# Altium footprint library XTAL.PcbLib: 19 footprints (part 1 of 2)
Each footprint in its own frame and in the unit in brackets; x right, y up, seen from the top. Pads: shape width x height; smd on the part's side, far side on the other; paste and mask are expansions set on the pad; w line width, h text height; cw(c..) or ccw(c..) is an arc to the next point about the centre after c.
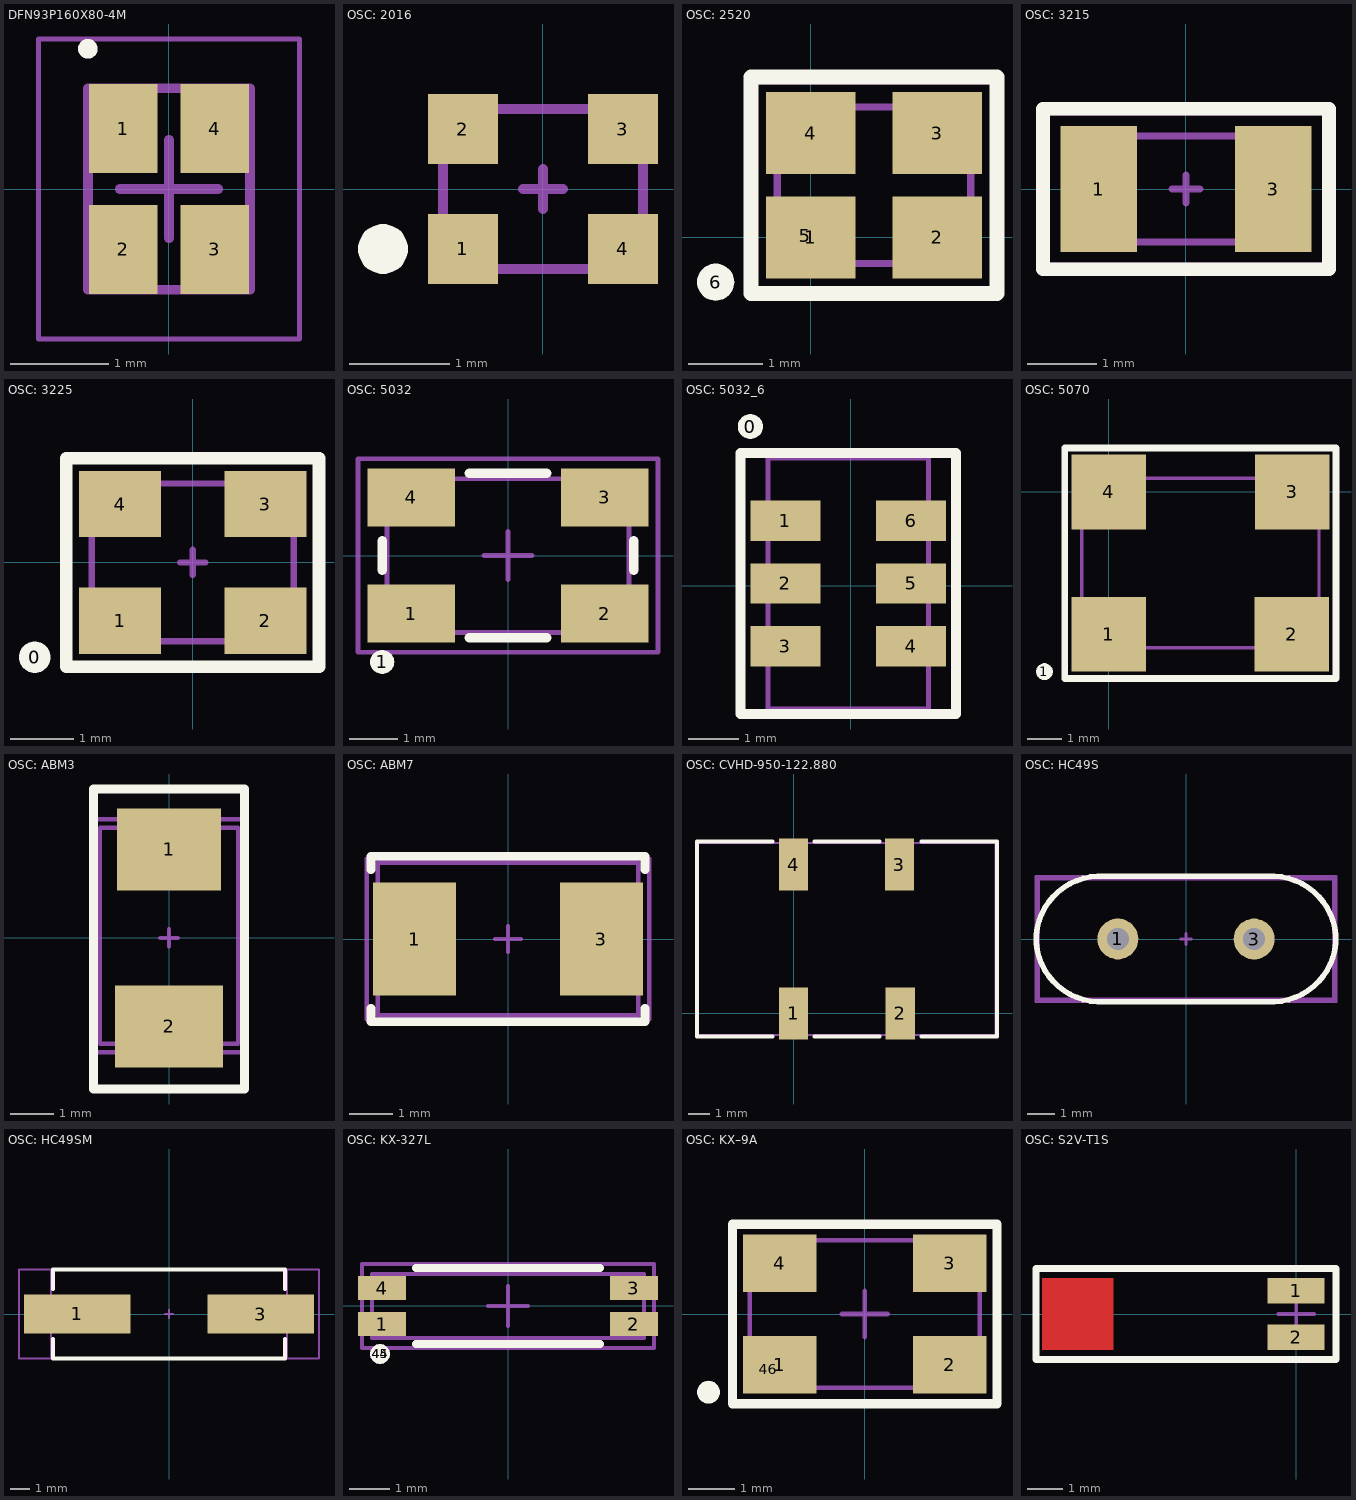
[diagram p0: the footprints below, top view; thin cyan lines are the x and y axes]

## DFN93P160X80-4M [mm] "DFN, 4-Leads, Body 2,00x1,60mm, Pitch 0,93mm, IPC Low Density"
height 0.8
pads (4):
  rect 0.7x0.9 smd: 1(-0.465,0.615) 2(-0.465,-0.615) 3(0.465,-0.615) 4(0.465,0.615)
Top Overlay:
  circle w0.1: c-0.825,1.425 r0.05
Border:
  lines w0.05: -1.325,-1.525 -1.325,1.525 1.325,1.525 1.325,-1.525 -1.325,-1.525
  lines w0.1: -0.5,0 0.5,0 ; 0,-0.5 0,0.5
3D:
  lines w0.1: -0.825,-1.025 0.825,-1.025 0.825,1.025 -0.825,1.025 -0.825,-1.025
3D body: height 0.8, standoff 0, extent -0.825,-1.025 0.825,1.025

## OSC: 2016 [mm]
pads (5):
  rect 0.7x0.7 smd: 1(-0.8,-0.6) 2(-0.8,0.6) 3(0.8,0.6) 4(0.8,-0.6)
  round 0.5 on Top Overlay: ""(-1.6,-0.6)
TopAssy:
  lines w0.1: -1,-0.8 -1,0.8 1,0.8 1,-0.8 -1,-0.8
Border:
  lines w0.1: -0.2,0 0.2,0 ; 0,-0.2 0,0.2 ; -1,-0.8 1,-0.8 1,0.8 -1,0.8 -1,-0.8
3D body "User Library-XRCGB27M000F2P00R0.STEP": height 0.65, standoff 0, extent -1,-0.8 1,0.8

## OSC: 2520 [mm]
pads (6):
  rect 1.2x1.1 smd: 1(0,0) 2(1.7,0) 3(1.7,1.4) 4(0,1.4)
  round 0.5 on Mech1: 5(-0.075,0.025)
  round 0.5 on Top Overlay: 6(-1.275,-0.6)
Top Overlay:
  lines w0.2: -0.8,-0.75 -0.8,2.15 2.5,2.15 2.5,-0.75 -0.8,-0.75
TopAssy:
  lines w0.1: -0.45,-0.35 2.15,-0.35 2.15,1.75 -0.45,1.75 -0.45,-0.35
Border:
  lines w0.1: -0.8,-0.7 -0.8,2.1 2.5,2.1 2.5,-0.7 -0.8,-0.7
3D body "User Library-Crystal NDK NX2520SA series.STEP": height 0.55, standoff 0, extent -0.45,-0.35 2.15,1.75

## OSC: 3215 [mm]
pads (2):
  rect 1.1x1.8 smd: 1(-1.25,0) 3(1.25,0)
Top Overlay:
  lines w0.2: -2.05,-1.15 -2.05,1.15 2.05,1.15 2.05,-1.15 -2.05,-1.15
TopAssy:
  lines w0.1: -1.61,-0.76 1.61,-0.76 1.61,0.76 -1.61,0.76 -1.61,-0.76
Border:
  lines w0.1: -0.2,0 0.2,0 ; 0,-0.2 0,0.2 ; -2.05,-1.1 2.05,-1.1 2.05,1.1 -2.05,1.1 -2.05,-1.1
3D body "User Library-ABS07.STEP": height 0.91, standoff 0, extent -1.61,-0.76 1.61,0.76

## OSC: 3225 [mm]
height 0.55
pads (5):
  round 0.5 on Top Overlay: 0(-2.5,-1.5)
  rect 1.3x1.05 smd: 1(-1.15,-0.925) 2(1.15,-0.925) 3(1.15,0.925) 4(-1.15,0.925)
Top Overlay:
  lines w0.2: -2,-1.65 2,-1.65 2,1.65 -2,1.65 -2,-1.65
TopAssy:
  lines w0.1: -1.6,-1.25 -1.6,1.25 1.6,1.25 1.6,-1.25 -1.6,-1.25
Border:
  lines w0.1: -0.2,0 0.2,0 ; 0,-0.2 0,0.2 ; -2,-1.7 2,-1.7 2,1.6 2,1.7 -2,1.7 -2,-1.7
3D body "User Library-User Library-Siward_SX3225.step": height 0.81, standoff 0, extent -1.6,-1.25 1.6,1.25

## OSC: 5032 [mm]
pads (6):
  round 0.5 on Top Overlay: 1(-2.6,-2.2)
  rect 1.8x1.2 smd: 1(-2,-1.2) 2(2,-1.2) 3(2,1.2) 4(-2,1.2)
  round 0.5 on Mech1: ""(-2,-1.1)
Top Overlay:
  lines w0.2: -2.6,-0.3 -2.6,0.3 ; -0.8,-1.7 0.8,-1.7 ; -0.8,1.7 0.8,1.7 ; 2.6,-0.3 2.6,0.3
TopAssy:
  lines w0.1: -2.5,-1.587 -2.5,1.587 2.5,1.587 2.5,-1.587 -2.5,-1.587
Border:
  lines w0.1: -0.5,0 0.5,0 ; 0,-0.5 0,0.5 ; -3.1,-2 3.1,-2 3.1,2 -3.1,2 -3.1,-2
3D body "ABM3B.STEP": height 1.1, standoff -0.01, extent -2.5,-1.587 2.5,1.587

## OSC: 5032_6 [mm]
pads (7):
  round 0.5 on Top Overlay: 0(-2,3.175)
  rect 1.4x0.8 smd: 1(-1.3,1.3) 2(-1.3,0.05) 3(-1.3,-1.2) 4(1.2,-1.2) 5(1.2,0.05) 6(1.2,1.3)
Top Overlay:
  lines w0.2: -2.2,-2.55 -2.2,2.65 2.1,2.65 2.1,-2.55 -2.2,-2.55
TopAssy:
  lines w0.1: -1.65,-2.45 1.55,-2.45 1.55,2.55 -1.65,2.55 -1.65,-2.45
3D body "User Library-H53-5x3_2.STEP": height 1.22, standoff 0, extent -1.65,-2.45 1.55,2.55

## OSC: 5070 [mm]
pads (5):
  round 0.5 on Top Overlay: 1(-1.9,-5.3)
  rect 2.2x2.2 smd: 1(0,-4.2) 2(5.4,-4.2) 3(5.41,0) 4(0,0)
Top Overlay:
  lines w0.2: -1.3,-5.5 6.7,-5.5 6.7,1.3 -1.3,1.3 -1.3,-5.5
TopAssy:
  lines w0.1: -0.8,-4.6 6.2,-4.6 6.2,0.4 -0.8,0.4 -0.8,-4.6
3D body "User Library-50 MHz.STEP": height 1.51, standoff -0.01, extent -0.8,-4.6 6.2,0.4

## OSC: ABM3 [mm] "Quartz"
height 1.5
pads (2):
  rect 2.4x1.9 smd: 1(0,2.05)
  rect 2.5x1.9 smd: 2(0,-2.05)
Top Overlay:
  lines w0.2: -1.75,-3.5 1.75,-3.5 1.75,-3.2 1.75,3.45 -1.75,3.45 -1.75,-3.5
TopAssy:
  lines w0.1: -1.6,-2.45 1.6,-2.45 1.6,2.55 -1.6,2.55 -1.6,-2.45
Border:
  lines w0.1: -0.2,0 0.2,0 ; 0,-0.2 0,0.2 ; -1.8,-2.65 1.8,-2.65 1.8,2.75 -1.8,2.75 -1.8,-2.65
3D body "User Library-ABM3-1.STEP": height 1.3, standoff 0, extent -1.6,-2.45 1.6,2.55

## OSC: ABM7 [mm]
pads (2):
  rect 1.9x2.6 smd: 1(-2.15,0) 3(2.15,0)
Top Overlay:
  lines w0.2: -3.15,-1.6 -3.15,-1.9 3.15,-1.9 3.15,-1.6 ; -3.15,1.6 -3.15,1.9 3.15,1.9 3.15,1.6
TopAssy:
  lines w0.1: -2.997,-1.752 2.997,-1.752 2.997,1.753 -2.997,1.753 -2.997,-1.752
Border:
  lines w0.1: -0.3,0 0.3,0 ; 0,-0.3 0,0.3 ; -3.25,-1.85 -3.25,1.85 3.25,1.85 3.25,-1.85 -3.25,-1.85
3D body "ABM7.STEP": height 1.4, standoff 0, extent -2.997,-1.752 2.997,1.753

## OSC: CVHD-950-122.880 [mm]
pads (4):
  rect 1.4x2.5 smd: 1(0,0) 2(5.08,0) 3(5.05,7.1) 4(0,7.1)
Top Overlay:
  lines w0.2: -1,-1.1 -4.6,-1.1 -4.6,8.2 -1,8.2 ; 1,-1.1 4.1,-1.1 ; 1,8.2 4.1,8.2 ; 6.1,-1.1 9.7,-1.1 9.7,8.2 6.1,8.2
TopAssy:
  lines w0.1: -4.575,-1.03 9.625,-1.03 9.625,8.13 -4.575,8.13 -4.575,-1.03
3D body "User Library-CVHD-950.STEP": height 5.3, standoff 0, extent -4.575,-1.03 9.625,8.13

## OSC: HC49S [mm]
height 4.2
pads (2):
  round 1.5 hole 0.8: 1(-2.5,0) 3(2.5,0)
Top Overlay:
  lines w0.2: -5.5,-0.156 -5.5,0.156 ; -5.495,-0.156 ccw(c-3.15,0.05) -3.248,-2.302 ; -5.495,0.156 cw(c-3.15,-0.05) -3.248,2.302 ; -3.248,-2.3 3.248,-2.3 ; -3.248,2.3 3.248,2.3 ; 3.248,-2.302 ccw(c3.15,0.05) 5.495,-0.156 ; 3.248,2.302 cw(c3.15,-0.05) 5.495,0.156 ; 5.5,-0.156 5.5,0.156
TopAssy:
  lines w0.1: -5.4,-2.2 -5.4,2.2 5.4,2.2 5.4,-2.2 -5.4,-2.2
Border:
  lines w0.1: -0.2,0 0.2,0 ; 0,-0.2 0,0.2 ; -5.5,-2.3 -5.5,2.3 5.5,2.3 5.5,-2.3 -5.5,-2.3
3D body "User Library-HC-49.STEP": height 3.5, standoff -3, extent -5.4,-2.25 5.4,2.25

## OSC: HC49SM [mm]
height 5
pads (2):
  rect 5.5x2 smd: 1(-4.75,0) 3(4.75,0)
Top Overlay:
  lines w0.2: -6,-1.3 -6,-2.3 6,-2.3 6,-1.3 ; -6,1.3 -6,2.3 6,2.3 6,1.3
TopAssy:
  lines w0.1: -6.1,-2.3 -6.1,2.3 6.1,2.3 6.1,-2.3 -6.1,-2.3
Border:
  lines w0.1: -0.2,0 0.2,0 ; 0,-0.2 0,0.2 ; -7.75,-2.3 -7.75,2.3 7.75,2.3 7.75,-2.3 -7.75,-2.3
3D body "User Library-HC-49S.STEP": height 4.3, standoff -0.05, extent -6.15,-2.35 6.15,2.35

## OSC: KX-327L [mm] "Quartz Crystal KX – 327L"
height 1.4
pads (6):
  rect 1.2x0.6 smd: 1(-3.15,-0.45) 2(3.15,-0.45) 3(3.15,0.45) 4(-3.15,0.45)
  round 0.5 on Top Overlay: 44(-3.2,-1.2)
  round 0.5 on Mech1: 45(-3.2,-1.2)
Top Overlay:
  lines w0.2: -2.3,-0.95 2.3,-0.95 ; -2.3,0.95 2.3,0.95
TopAssy:
  lines w0.1: -3.4,-0.8 3.4,-0.8 3.4,0.8 -3.4,0.8 -3.4,-0.8
Border:
  lines w0.1: -0.5,0 0.5,0 ; 0,-0.5 0,0.5 ; -3.65,-1.05 -3.65,1.05 3.65,1.05 3.65,-1.05 -3.65,-1.05
3D body "User Library-KX-327LT.STEP": height 1.4, standoff 0, extent -3.45,-0.75 3.45,0.75

## OSC: KX–9A [mm] "Quartz Crystal  KX–9A"
height 1
pads (6):
  rect 1.6x1.25 smd: 1(-1.85,-1.1) 2(1.85,-1.1) 3(1.85,1.1) 4(-1.85,1.1)
  round 0.5 on Mech1: 46(-2.1,-1.2)
  round 0.5 on Top Overlay: ""(-3.4,-1.7)
Top Overlay:
  lines w0.2: -2.875,-1.95 -2.875,1.95 2.875,1.95 2.875,-1.95 -2.875,-1.95
TopAssy:
  lines w0.1: -2.5,-1.6 2.5,-1.6 2.5,1.6 -2.5,1.6 -2.5,-1.6
Border:
  lines w0.1: -0.5,0 0.5,0 ; 0,-0.5 0,0.5 ; -2.85,-1.95 -2.85,1.95 2.85,1.95 2.85,-1.95 -2.85,-1.95
3D body "User Library-GeyerElectronics_KX9A.STEP": height 1.01, standoff 0, extent -2.5,-1.6 2.5,1.6

## OSC: S2V-T1S [mm]
height 1.5
pads (2):
  rect 1.6x0.7 smd: 1(0,0.65) 2(0,-0.65)
Top Layer:
  rectangle: -7.1,-1 -5.1,1
Top Overlay:
  lines w0.2: -7.267,-1.27 1.115,-1.27 1.115,1.27 -7.267,1.27 -7.267,-1.27
TopAssy:
  lines w0.1: -7.267,-1.27 1.115,-1.27 1.115,1.27 -7.267,1.27 -7.267,-1.27
Border:
  lines w0.1: -0.5,0 0.5,0 ; 0,-0.5 0,0.5 ; -7.267,-1.27 1.115,-1.27 1.115,1.27 -7.267,1.27 -7.267,-1.27
3D body "MS2V-T1S 32768 Hz.STEP": height 1.5, standoff 0, extent -6.422,-0.738 0.778,0.762